# Altium schematic symbol library Voltage Regulator.SchLib: 1 symbol
Pins are listed as number, name and electrical type; pins without a type are passive.

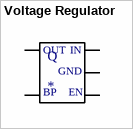
[diagram p0: symbol Voltage Regulator]

## Voltage Regulator
designator Q
footprint Voltage Regulator (SOT23, 5-Leads, Body 2.90x2.70mm, Pitch 0.95mm, IPC Medium Density)
pins: 1, 2, 3, 4, 5
text: OUT; IN; GND; BP; EN